# Altium footprint library SEPIC FOOTPRINTS.PcbLib: 5 footprints
Each footprint in its own frame and in the unit in brackets; x right, y up, seen from the top. Pads: shape width x height; smd on the part's side, far side on the other; paste and mask are expansions set on the pad; w line width, h text height; cw(c..) or ccw(c..) is an arc to the next point about the centre after c.
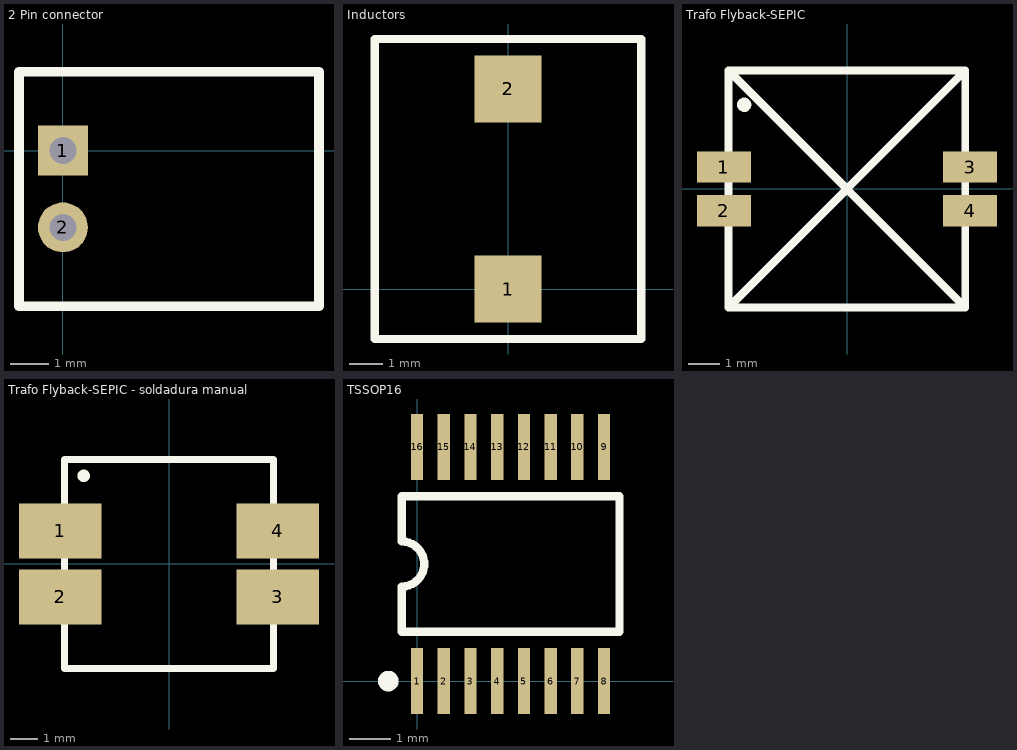
[diagram p0: the footprints below, top view; thin cyan lines are the x and y axes]

## 2 Pin connector [mm]
pads (2):
  rect 1.3x1.3 hole 0.7: 1(0,0)
  round 1.3 hole 0.7: 2(0,-2)
Top Overlay:
  lines w0.254: -1.143,-4.05 6.66,-4.05 6.66,2.05 -1.143,2.05 -1.143,-4.05

## Inductors [mm]
pads (2):
  rect 2x2 smd: 1(0,0) 2(0,6)
Top Overlay:
  lines w0.254: -4,-1.5 -4,7.5 4,7.5 4,-1.5 -4,-1.5

## Trafo Flyback-SEPIC [mm] "Trafo SMD Flyback-SEPIC DRQ74"
pads (4):
  rect 1.73x1 smd: 1(-3.95,0.7) 2(-3.95,-0.7) 3(3.95,0.7) 4(3.95,-0.7)
Top Overlay:
  circle w0.254: c-3.3,2.7 r0.1
  lines w0.254: -3.804,-3.804 3.796,3.796 ; -3.804,-3.804 -3.804,3.796 ; -3.804,-3.804 3.796,-3.804 ; -3.804,3.796 3.796,-3.804 ; -3.804,3.796 3.796,3.796 ; 3.796,-3.804 3.796,3.796

## Trafo Flyback-SEPIC - soldadura manual [mm] "Trafo SMD Flyback-SEPIC DRQ74"
pads (4):
  rect 3x2 smd: 1(-3.95,1.2) 2(-3.95,-1.2) 3(3.95,-1.2) 4(3.95,1.2)
Top Overlay:
  circle w0.254: c-3.1,3.2 r0.1
  lines w0.254: -3.804,-3.804 -3.804,3.796 3.796,3.796 3.796,-3.804 -3.804,-3.804

## TSSOP16 [mm]
pads (16):
  rect 0.3x1.6 smd: 1(0,0) 2(0.65,0) 3(1.3,0) 4(1.95,0) 5(2.6,0) 6(3.25,0) 7(3.9,0) 8(4.55,0) 9(4.55,5.7) 10(3.9,5.7) 11(3.25,5.7) 12(2.6,5.7) 13(1.95,5.7) 14(1.3,5.7) 15(0.65,5.7) 16(0,5.7)
Top Overlay:
  circle w0.25: c-0.7,0 r0.125
  lines w0.2: -0.375,1.2 -0.375,2.3 ccw(c-0.375,2.85) -0.375,3.4 -0.375,4.5 4.925,4.5 4.925,1.2 -0.375,1.2